# Altium schematic symbol library PCB Modules.SchLib: 25 symbols
Pins are listed as number, name and electrical type; pins without a type are passive.

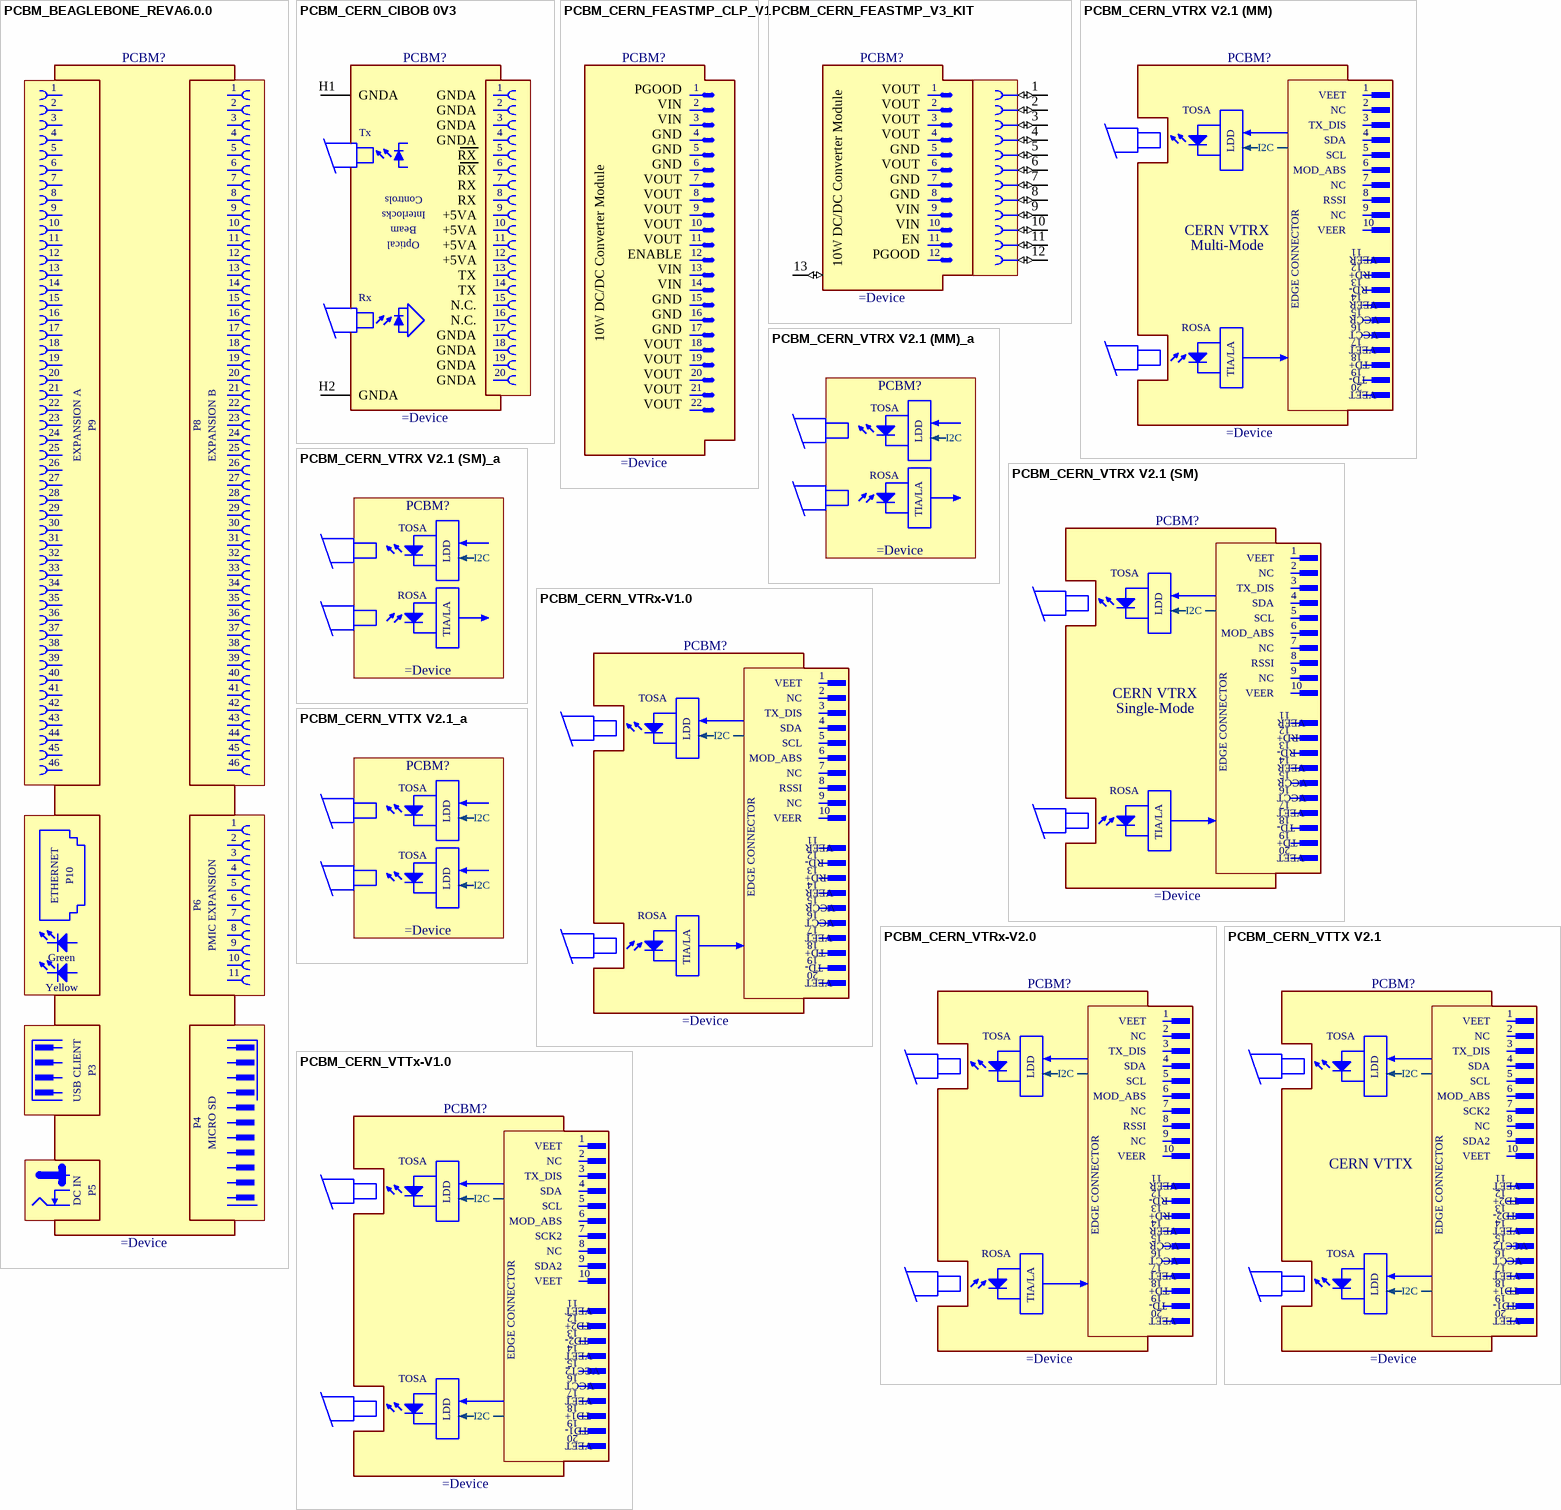
[diagram p0: symbols PCBM_BEAGLEBONE_REVA6.0.0 to PCBM_CERN_VTTx-V1.0]

## PCBM_BEAGLEBONE_REVA6.0.0
designator PCBM?
Beaglebone Development Module
text: 1; 2; 3; 4; 5; 6; 7; 8; 9; 10; 11; 12; 13; 14; 15; 16; 17; 18; 19; 20; 21; 22; 23; EXPANSION A; P9; P8; EXPANSION B; 24; 25; 26; 27; 28; 29; 30; 31; 32; 33; 34; 35; 36; 37; 38; 39; 40; 41; 42; 43; 44; 45; 46; ETHERNET; P10; P6; PMIC EXPANSION; Green; Yellow; USB CLIENT; P3; P4; MICRO SD; DC IN; P5

## PCBM_CERN_CIBOB 0V3
designator PCBM?
Controls Interlocks Beam Optical B (CIBOB) 0V3 Printed Circuit Boar Module
pins: H1 GNDA (power), H2 GNDA (power)
text: 1; 2; 3; Tx; 4; 5; RX; 6; 7; 8; Controls; 9; Interlocks; +5VA; 10; Beam; 11; Optical; 12; 13; TX; 14; Rx; 15; N.C.; 16; 17; 18; 19; 20

## PCBM_CERN_FEASTMP_CLP_V1
designator PCBM?
Radiation And Magnetic Field Tolerant 10W DC/DC Converter Module
text: PGOOD; 1; VIN; 2; 3; GND; 4; 5; 6; VOUT; 7; 8; 9; 10; 11; 10W DC/DC Converter Module; ENABLE; 12; 13; 14; 15; 16; 17; 18; 19; 20; 21; 22

## PCBM_CERN_FEASTMP_V3_KIT
designator PCBM?
Radiation and Magnetic Field Tolerant 10W DC/DC Converter Module
pins: 1 (io), 2 (io), 3 (io), 4 (io), 5 (io), 6 (io), 7 (io), 8 (io), 9 (io), 10 (io), 11 (io), 12 (io), 13 Mounting Hole (io)
text: VOUT; GND; 10W DC/DC Converter Module; VIN; EN; PGOOD

## PCBM_CERN_VTRX V2.1 (MM)
designator PCBM?
CERN VTRX V2.1 Multi-Mode (MM)
text: 1; VEET; 2; TOSA; NC; 3; LDD; TX_DIS; 4; SDA; I2C; 5; SCL; 6; MOD_ABS; 7; 8; RSSI; EDGE CONNECTOR; 9; 10; CERN VTRX; VEER; Multi-Mode; 11; 12; RD+; 13; RD-; 14; 15; VCCR; ROSA; 16; VCCT; TIA/LA; 17; 18; TD+; 19; TD-; 20

## PCBM_CERN_VTRX V2.1 (MM)_a
designator PCBM?
CERN VTRX V2.1 Single-Mode (MM)
text: TOSA; LDD; I2C; ROSA; TIA/LA

## PCBM_CERN_VTRX V2.1 (SM)
designator PCBM?
CERN VTRX V2.1 Single-Mode (SM)
text: 1; VEET; 2; TOSA; NC; 3; LDD; TX_DIS; 4; SDA; I2C; 5; SCL; 6; MOD_ABS; 7; 8; RSSI; EDGE CONNECTOR; 9; 10; CERN VTRX; VEER; Single-Mode; 11; 12; RD+; 13; RD-; 14; 15; VCCR; ROSA; 16; VCCT; TIA/LA; 17; 18; TD-; 19; TD+; 20

## PCBM_CERN_VTRX V2.1 (SM)_a
designator PCBM?
CERN VTRX V2.1 Single-Mode (SM)
text: TOSA; LDD; I2C; ROSA; TIA/LA

## PCBM_CERN_VTRx-V1.0
designator PCBM?
Versatile Transmitter Module
text: 1; VEET; 2; TOSA; NC; 3; LDD; TX_DIS; 4; SDA; I2C; 5; SCL; 6; MOD_ABS; 7; 8; RSSI; EDGE CONNECTOR; 9; 10; VEER; 11; 12; RD-; 13; RD+; 14; 15; VCCR; ROSA; 16; VCCT; TIA/LA; 17; 18; TD+; 19; TD-; 20

## PCBM_CERN_VTRx-V2.0
designator PCBM?
Versatile Transmitter Module
text: 1; VEET; 2; TOSA; NC; 3; LDD; TX_DIS; 4; SDA; I2C; 5; SCL; 6; MOD_ABS; 7; 8; RSSI; EDGE CONNECTOR; 9; 10; VEER; 11; 12; RD-; 13; RD+; 14; 15; VCCR; ROSA; 16; VCCT; TIA/LA; 17; 18; TD+; 19; TD-; 20

## PCBM_CERN_VTTX V2.1
designator PCBM?
Versatile Twin Transmitter Module
text: 1; VEET; 2; TOSA; NC; 3; LDD; TX_DIS; 4; SDA; I2C; 5; SCL; 6; MOD_ABS; 7; SCK2; 8; EDGE CONNECTOR; 9; SDA2; 10; CERN VTTX; 11; 12; TD2+; 13; TD2-; 14; 15; VCCT2; 16; VCCT; 17; 18; TD1+; 19; TD1-; 20

## PCBM_CERN_VTTX V2.1_a
designator PCBM?
Versatile Twin Transmitter Module
text: TOSA; LDD; I2C

## PCBM_CERN_VTTx-V1.0
designator PCBM?
Versatile Twin Transmitter Module
text: 1; VEET; 2; TOSA; NC; 3; LDD; TX_DIS; 4; SDA; I2C; 5; SCL; 6; MOD_ABS; 7; SCK2; 8; EDGE CONNECTOR; 9; SDA2; 10; 11; 12; TD2+; 13; TD2-; 14; 15; VCCT2; 16; VCCT; 17; 18; TD1+; 19; TD1-; 20

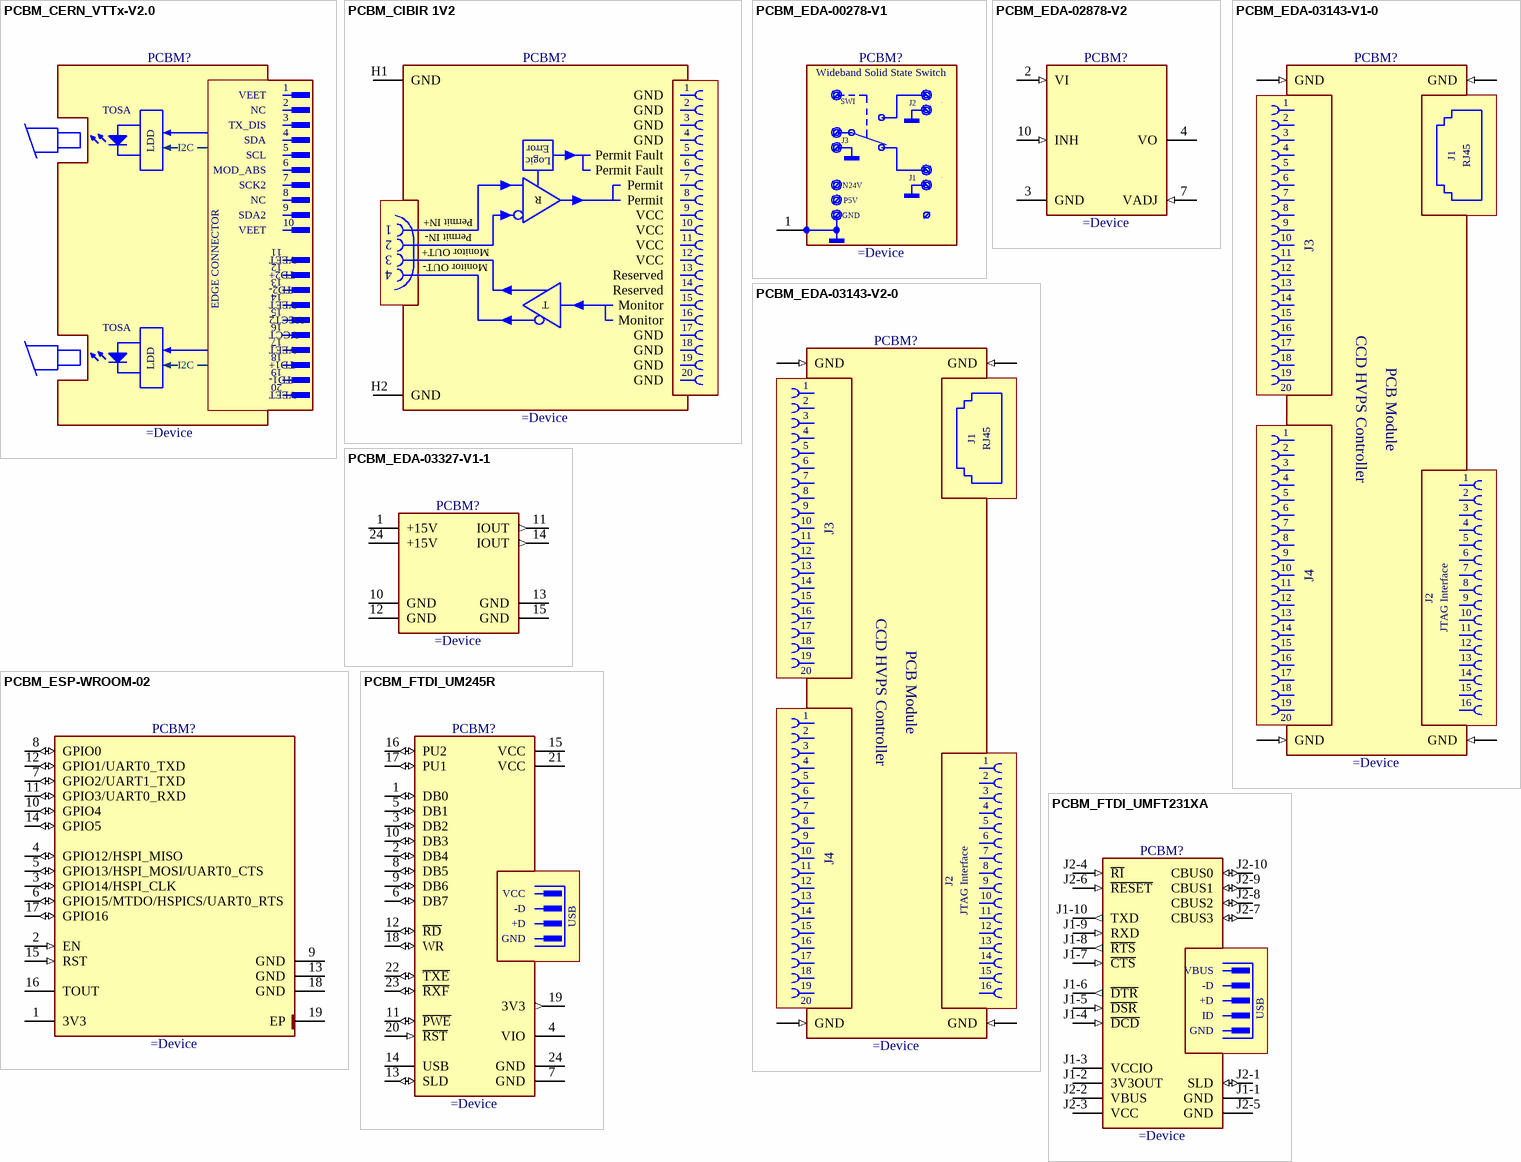
[diagram p1: symbols PCBM_CERN_VTTx-V2.0 to PCBM_FTDI_UMFT231XA]

## PCBM_CERN_VTTx-V2.0
designator PCBM?
Versatile Twin Transmitter Module
text: 1; VEET; 2; TOSA; NC; 3; LDD; TX_DIS; 4; SDA; I2C; 5; SCL; 6; MOD_ABS; 7; SCK2; 8; EDGE CONNECTOR; 9; SDA2; 10; 11; 12; TD2+; 13; TD2-; 14; 15; VCCT2; 16; VCCT; 17; 18; TD1+; 19; TD1-; 20

## PCBM_CIBIR 1V2
designator PCBM?
Controls Interlocks Beam Interface Receiver (CIBIR) 1V2 Printed Circuit Board Module
pins: H1 GND (power), H2 GND (power)
text: 1; 2; 3; 4; Error; 5; Permit Fault; Logic; 6; 7; Permit; 8; R; 9; VCC; Permit IN+; 10; Permit IN-; 11; Monitor OUT+; 12; Monitor OUT-; 13; Reserved; 14; 15; T; Monitor; 16; 17; 18; 19; 20

## PCBM_EDA-00278-V1
designator PCBM?
"Wideband Solid State Switch" Printed Circuit Board Module
pins: 1 (power)
text: Wideband Solid State Switch; SWI; J2; J3; J1; N24V; P5V; GND

## PCBM_EDA-02878-V2
designator PCBM?
TPS40303 DC/DC Converter Module
pins: 2 VI (in), 3 GND (power), 4 VO (power), 7 VADJ (in), 10 INH (in)

## PCBM_EDA-03143-V1-0
designator PCBM?
"CCD HVPS Controller" Printed Circuit Board Module
pins: MECH1 GND (in), MECH2 GND (in), MECH3 GND (in), MECH4 GND (in)
text: 1; 2; 3; 4; J1; RJ45; 5; 6; 7; 8; 9; 10; J3; 11; 12; 13; 14; 15; 16; 17; 18; 19; 20; CCD HVPS Controller; PCB Module; J4; J2; JTAG Interface

## PCBM_EDA-03143-V2-0
designator PCBM?
"CCD HVPS Controller" Printed Circuit Board Module
pins: MECH1 GND (in), MECH2 GND (in), MECH3 GND (in), MECH4 GND (in)
text: 1; 2; 3; 4; J1; RJ45; 5; 6; 7; 8; 9; 10; J3; 11; 12; 13; 14; 15; 16; 17; 18; 19; 20; CCD HVPS Controller; PCB Module; J4; J2; JTAG Interface

## PCBM_EDA-03327-V1-1
designator PCBM?
InterOut Current Source Module
pins: 1 +15V (power), 10 GND (power), 11 IOUT (out), 12 GND (power), 13 GND (power), 14 IOUT (out), 15 GND (power), 24 +15V (power)

## PCBM_ESP-WROOM-02
designator PCBM?
Module With ESP8266EX Wi-Fi SoC With Memory Controller Including SRAM And ROM
pins: 1 3V3 (power), 2 EN (in), 3 GPIO14/HSPI_CLK (io), 4 GPIO12/HSPI_MISO (io), 5 GPIO13/HSPI_MOSI/UART0_CTS (io), 6 GPIO15/MTDO/HSPICS/UART0_RTS (io), 7 GPIO2/UART1_TXD (io), 8 GPIO0 (io), 9 GND (power), 10 GPIO4 (io), 11 GPIO3/UART0_RXD (io), 12 GPIO1/UART0_TXD (io), 13 GND (power), 14 GPIO5 (io), 15 RST (in), 16 TOUT (power), 17 GPIO16 (io), 18 GND (power), 19 EP (power)

## PCBM_FTDI_UM245R
designator PCBM?
Parallel FIFO Development Module
pins: 1 DB0 (io), 2 DB4 (io), 3 DB2 (io), 4 VIO (power), 5 DB1 (io), 6 DB7 (io), 7 GND (power), 8 DB5 (io), 9 DB6 (io), 10 DB3 (io), 11 ~{PWE} (io), 12 ~{RD} (io), 13 SLD (io), 14 USB (power), 15 VCC (power), 16 PU2 (io), 17 PU1 (io), 18 WR (io), 19 3V3 (out), 20 ~{RST} (in), 21 VCC (power), 22 ~{TXE} (io), 23 ~{RXF} (io), 24 GND (power)
text: -D; +D

## PCBM_FTDI_UMFT231XA
designator PCBM?
USB to Full-Handshake UART Development Module
pins: J1-1 GND (power), J1-2 3V3OUT (power), J1-3 VCCIO (power), J1-4 ~{DCD} (in), J1-5 ~{DSR} (in), J1-6 ~{DTR} (out), J1-7 ~{CTS} (in), J1-8 ~{RTS} (out), J1-9 RXD (in), J1-10 TXD (out), J2-1 SLD (io), J2-2 VBUS (power), J2-3 VCC (power), J2-4 ~{RI} (in), J2-5 GND (power), J2-6 ~{RESET} (in), J2-7 CBUS3 (io), J2-8 CBUS2 (io), J2-9 CBUS1 (io), J2-10 CBUS0 (io)
text: -D; +D; USB; ID

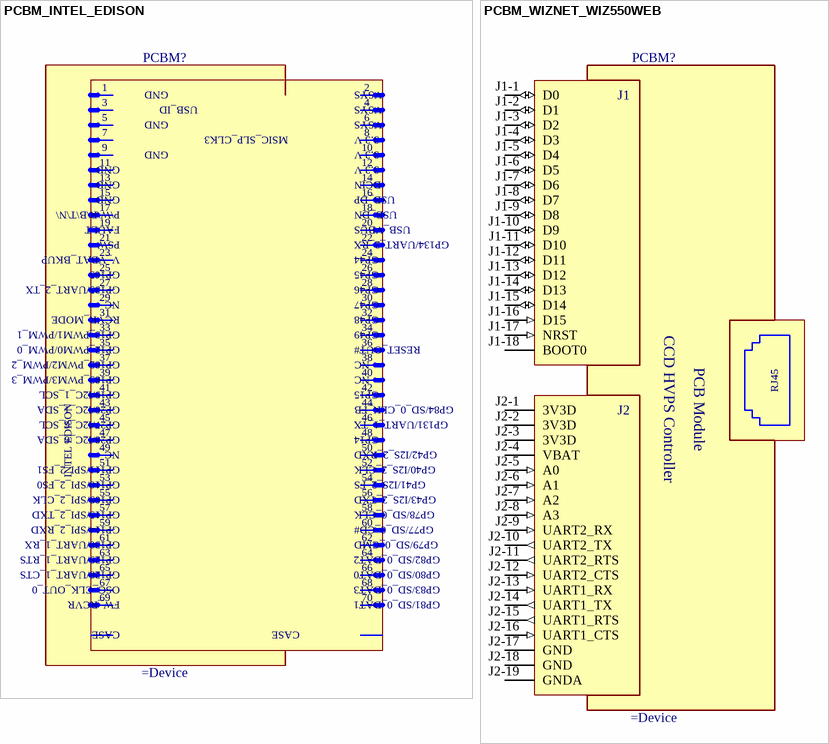
[diagram p2: symbols PCBM_INTEL_EDISON to PCBM_WIZNET_WIZ550WEB]

## PCBM_INTEL_EDISON
designator PCBM?
Processor and Processor Power Management IC, RAM, eMMC, and Wi-Fi/BT Module
text: 1; 2; GND; VSYS; 3; 4; USB_ID; 5; 6; 7; 8; MSIC_SLP_CLK3; 3.3 V; 9; 10; 11; 12; 13; 14; DCIN; 15; 16; USB_DP; 17; 18; P\W\R\B\T\N\; USB_DN; 19; 20; FAULT; USB_VBUS; 21; 22; PSW; GP134/UART_2_RX; 23; 24; V_VBAT_BKUP; GP44; 25; 26; GP165; GP45; 27; 28; GP135/UART_2_TX; GP46; 29; 30; NC; GP47; 31; 32; RCVR_MODE; GP48; 33; 34; GP13_PWM1/PWM_1; GP49; 35; 36; GP12_PWM0/PWM_0; RESET_OUT#; 37; 38; GP182_PWM2/PWM_2; 39; 40; GP183_PWM3/PWM_3; 41; 42; GP19/I2C_1_SCL; GP15; INTEL EDISON; 43; 44; GP20/I2C_1_SDA; GP84/SD_0_CLK_FB; 45; 46; GP27/I2C_6_SCL; GP131/UART_1_TX; 47; 48; GP28/I2C_6_SDA; GP14; 49; 50; GP42/I2S_2_RXD; 51; 52; GP111/SPI_2_FS1; GP40/I2S_2_CLK; 53; 54; GP110/SPI_2_FS0; GP41/I2S_2_FS; 55; 56; GP109/SPI_2_CLK; GP43/I2S_2_TXD; 57; 58; GP115/SPI_2_TXD; GP78/SD_0_CLK; 59; 60; GP114/SPI_2_RXD; GP77/SD_0_CD#; 61; 62; GP130/UART_1_RX; GP79/SD_0_CMD; 63; 64; GP129/UART_1_RTS; GP82/SD_0_DAT2; 65; 66; GP128/UART_1_CTS; GP80/SD_0_DAT0; 67; 68; OSC_CLK_OUT_0; GP83/SD_0_DAT3; 69; 70; FW_RCVR; GP81/SD_0_DAT1; CASE

## PCBM_WIZNET_WIZ550WEB
designator PCBM?
Embedded Web Server Module base on W5500 TCP/IP Chip
pins: J1-1 D0 (io), J1-2 D1 (io), J1-3 D2 (io), J1-4 D3 (io), J1-5 D4 (io), J1-6 D5 (io), J1-7 D6 (io), J1-8 D7 (io), J1-9 D8 (io), J1-10 D9 (io), J1-11 D10 (io), J1-12 D11 (io), J1-13 D12 (io), J1-14 D13 (io), J1-15 D14 (io), J1-16 D15 (in), J1-17 NRST (in), J1-18 BOOT0 (power), J2-1 3V3D (power), J2-2 3V3D (power), J2-3 3V3D (power), J2-4 VBAT (power), J2-5 A0 (in), J2-6 A1 (in), J2-7 A2 (in), J2-8 A3 (in), J2-9 UART2_RX (in), J2-10 UART2_TX (out), J2-11 UART2_RTS (out), J2-12 UART2_CTS (in), J2-13 UART1_RX (in), J2-14 UART1_TX (out), J2-15 UART1_RTS (out), J2-16 UART1_CTS (in), J2-17 GND (power), J2-18 GND (power), J2-19 GNDA (power)
text: J1; RJ45; J2; CCD HVPS Controller; PCB Module